# EAGLE library part ATMEGA1284P-MU (library dooba)
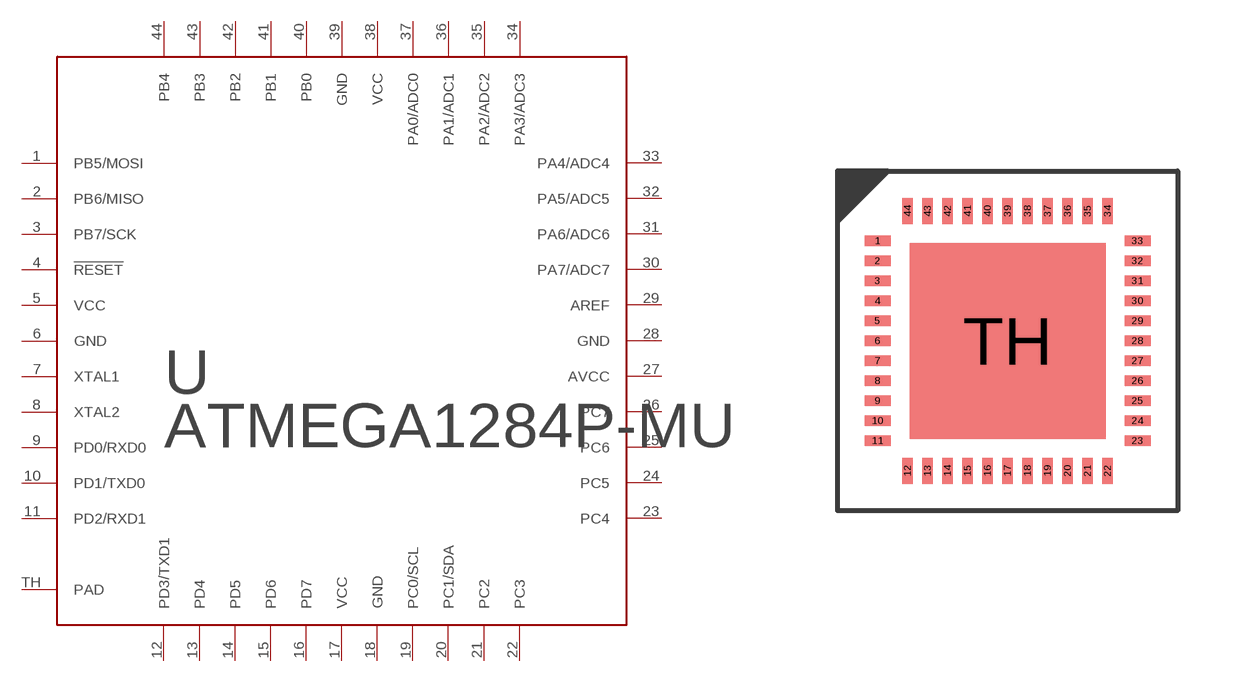
[diagram p29: symbol with the pads of 44-VQFN; footprint 44-VQFN]

Designator prefix U

## ATMEGA1284P-MU44-VQFN  [44-VQFN]
1  PB5/MOSI
2  PB6/MISO
3  PB7/SCK
4  !RESET
5  VCC
6  GND
7  XTAL1
8  XTAL2
9  PD0/RXD0
10  PD1/TXD0
11  PD2/RXD1
12  PD3/TXD1
13  PD4
14  PD5
15  PD6
16  PD7
17  VCC
18  GND
19  PC0/SCL
20  PC1/SDA
21  PC2
22  PC3
23  PC4
24  PC5
25  PC6
26  PC7
27  AVCC
28  GND
29  AREF
30  PA7/ADC7
31  PA6/ADC6
32  PA5/ADC5
33  PA4/ADC4
34  PA3/ADC3
35  PA2/ADC2
36  PA1/ADC1
37  PA0/ADC0
38  VCC
39  GND
40  PB0
41  PB1
42  PB2
43  PB3
44  PB4
TH  PAD

## Footprint 44-VQFN (pad centres in mm)
smd 0.65 x 0.26: 1 -3.25,2.5; 2 -3.25,2; 3 -3.25,1.5; 4 -3.25,1; 5 -3.25,0.5; 6 -3.25,0; 7 -3.25,-0.5; 8 -3.25,-1; 9 -3.25,-1.5; 10 -3.25,-2; 11 -3.25,-2.5; 23 3.25,-2.5; 24 3.25,-2; 25 3.25,-1.5; 26 3.25,-1; 27 3.25,-0.5; 28 3.25,0; 29 3.25,0.5; 30 3.25,1; 31 3.25,1.5; 32 3.25,2; 33 3.25,2.5
smd 0.26 x 0.65: 12 -2.5,-3.25; 13 -2,-3.25; 14 -1.5,-3.25; 15 -1,-3.25; 16 -0.5,-3.25; 17 0,-3.25; 18 0.5,-3.25; 19 1,-3.25; 20 1.5,-3.25; 21 2,-3.25; 22 2.5,-3.25; 34 2.5,3.25; 35 2,3.25; 36 1.5,3.25; 37 1,3.25; 38 0.5,3.25; 39 0,3.25; 40 -0.5,3.25; 41 -1,3.25; 42 -1.5,3.25; 43 -2,3.25; 44 -2.5,3.25
smd 4.9 x 4.9: TH 0,0